# Altium schematic symbol library Sektor_LED_Displays.SchLib: 1 symbol
Pins are listed as number, name and electrical type; pins without a type are passive.

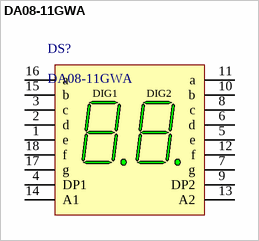
[diagram p0: symbol DA08-11GWA]

## DA08-11GWA
designator DS?
Двухсимвольный светодиодный индикатор
footprint DUAL_DIGIT_NUMERIC_08
pins: 1 e "Digit 1 e Cathode", 2 d "Digit 1 d Cathode", 3 c "Digit 1 c Cathode", 4 DP1 "Digit 1 DP Cathode", 5 e "Digit 2 e Cathode", 6 d "Digit 2 d Cathode", 7 g "Digit 2 g Cathode", 8 c "Digit 2 c Cathode", 9 DP2 "Digit 2 DP Cathode", 10 b "Digit 2 b Cathode", 11 a "Digit 2 a Cathode", 12 f "Digit 2 f Cathode", 13 A2 "Digit 2  Common Anode", 14 A1 "Digit 1 Common Anode", 15 b "Digit 1 b Cathode", 16 a "Digit 1 a Cathode", 17 g "Digit 1 g Cathode", 18 f "Digit 1 f Cathode"
text: DIG1; DIG2